# EAGLE library part MMATCH-6-* (library jt-con-micromatch)
AMP Micromatch 6-pin
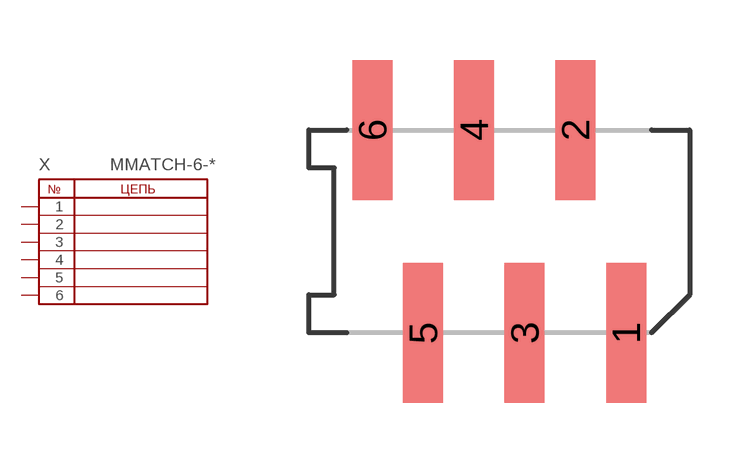
[diagram p1: symbol with the pads of AMP-188275-6; footprint AMP-188275-6]

Designator prefix X

## MMATCH-6-  [AMP-188275-6]
1  1
2  2
3  3
4  4
5  5
6  6

## Footprint AMP-188275-6 (pad centres in mm)
smd 1 x 3.5: 1 6.35,-2.54; 2 5.08,2.54; 3 3.81,-2.54; 4 2.54,2.54; 5 1.27,-2.54; 6 0,2.54